# Altium integrated library Linear Technology Power Management System Supervisor, Monitor and Control.IntLib: 1611 symbols (part 7 of 100)
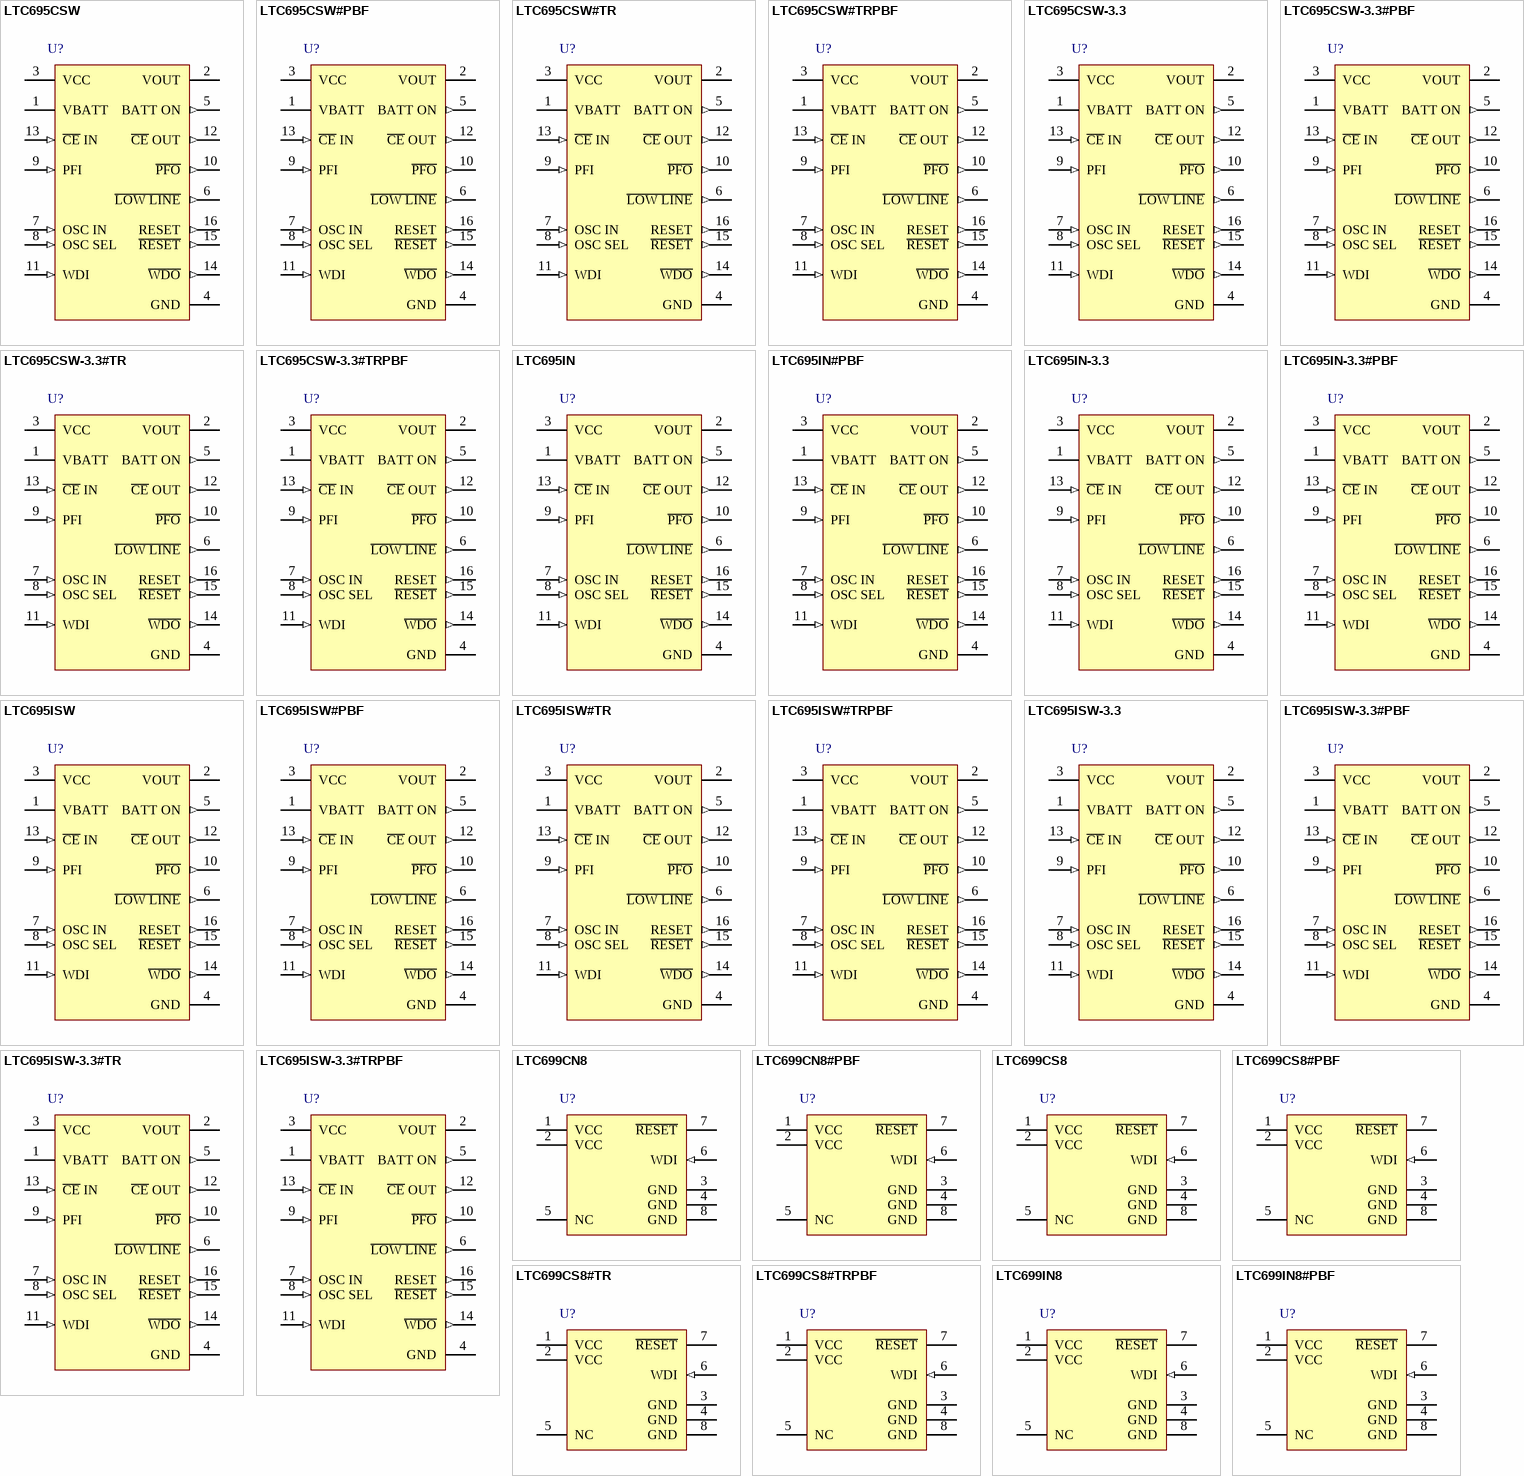
[diagram p51: symbols LTC695CSW to LTC699IN8#PBF]

## LTC695ISW#TR
designator U?
Microprocessor Supervisory Circuit, 16-pin SOIC (SW-16), -40 to 85 degC, Tape and Reel; Manufacturer: Linear Technology; PartNumber: LTC695ISW#TR; Number of Supplies(#): 1; DatasheetVersion: Rev. F; PackageVersion: Jun-10; PackageReference: SW-16; PackageDescription: 16-Pin Plastic Small Outline, Body 10.30 x 7.49 mm, Pitch 1.27 mm; Supplier 1: Digi-Key; Supplier Part Number 1: LTC695ISW#TR-ND; Packing: Tape and Reel; RoHS: FALSE; Mounting Technology: Surface Mount; ComponentLink1Description: Manufacturer URL; ComponentLink1URL: http://www.linear.com/; ComponentLink2Description: Datasheet; ComponentLink2URL: http://cds.linear.com/docs/en/datasheet/690ff.pdf; ComponentLink3Description: Package Specification; ComponentLink3URL: http://www.linear.com/docs/en/packaging/SO_16_05-08-1620.pdf
footprint LT-SW-16_N (SOIC, 16-Leads, Body 10.3x7.49mm, Pitch 1.27mm, IPC Medium Density)
footprint LT-SW-16_L (SOIC, 16-Leads, Body 10.3x7.49mm, Pitch 1.27mm, IPC High Density)
footprint LT-SW-16_M (SOIC, 16-Leads, Body 10.3x7.49mm, Pitch 1.27mm, IPC Low Density)
pins: 1 VBATT (power) "Back-Up Battery Input. When VCC falls below VBATT, auxiliary power connected to VBATT, is delivered to VOUTthrough PMOS switch, M2. If back-up battery or auxiliary power is not used, VBATT should be connected to GND.", 2 VOUT (power) "Voltage Output for Backed Up Memory. Bypass with a capacitor of 0.1uF or greater. During normal operation, VOUT obtains power from VCC through an NMOS power switch, M1, which can deliver up to 50mA and has a typical on (See Datasheet)", 3 VCC (power), 4 GND (power) "Ground Pin.", 5 BATT ON (out), 6 ~{LOW LINE} (out), 7 OSC IN (in), 8 OSC SEL (in), 9 PFI (in) "Power Failure Input. PFI is the noninverting input to the power-fail comparator, C3. The inverting input is internally connected to a 1.3V reference. The power failure output remains high when PFI is above 1.3V and goes low (See Datasheet)", 10 ~{PFO} (out) "Power Failure Output from C3. P\F\O\ remains high when PFI is above 1.3V and goes low when PFI is below 1.3V. When VCC is lower than VBATT, C3 is shut down and P\F\O\ is forced low.", 11 WDI (in) "Watchdog Input. WDI is a three-level input. Driving WDI either high or low for longer than the watchdog timeout period, forces both R\E\S\E\T\ and W\D\O\ low. Floating WDI disables the watchdog timer. The timer resets itself (See Datasheet)", 12 ~{CE} OUT (out) "Logic Output on the C\h\i\p\ \E\n\a\b\l\e\ Gating Circuit. When VCC is above the reset voltage threshold, C\E\ OUT is a buffered replica of C\E\ IN. When VCC is below the reset voltage threshold C\E\ OUT is forced high (see (See Datasheet)", 13 ~{CE} IN (in), 14 ~{WDO} (out) "Watchdog Logic Output. When the watchdog input remains either high or low for longer than the watchdog timeout period, W\D\O\ goes low. W\D\O\ is set high whenever there is a transition on the WDI pin, or L\O\W\ \L\I\N\E\ (See Datasheet)", 15 ~{RESET} (out), 16 RESET (out) "Active High Logic Output. It is the inverse of R\E\S\E\T\."

## LTC695ISW#TRPBF
designator U?
Microprocessor Supervisory Circuit, 16-pin SOIC (SW-16), -40 to 85 degC, Pb-Free, Tape and Reel; Manufacturer: Linear Technology; PartNumber: LTC695ISW#TRPBF; Number of Supplies(#): 1; DatasheetVersion: Rev. F; PackageVersion: Jun-10; PackageReference: SW-16; PackageDescription: 16-Pin Plastic Small Outline, Body 10.30 x 7.49 mm, Pitch 1.27 mm; Supplier 1: Digi-Key; Supplier Part Number 1: LTC695ISW#TRPBF-ND; Packing: Tape and Reel; RoHS: TRUE; Mounting Technology: Surface Mount; ComponentLink1Description: Manufacturer URL; ComponentLink1URL: http://www.linear.com/; ComponentLink2Description: Datasheet; ComponentLink2URL: http://cds.linear.com/docs/en/datasheet/690ff.pdf; ComponentLink3Description: Package Specification; ComponentLink3URL: http://www.linear.com/docs/en/packaging/SO_16_05-08-1620.pdf
footprint LT-SW-16_N (SOIC, 16-Leads, Body 10.3x7.49mm, Pitch 1.27mm, IPC Medium Density)
footprint LT-SW-16_L (SOIC, 16-Leads, Body 10.3x7.49mm, Pitch 1.27mm, IPC High Density)
footprint LT-SW-16_M (SOIC, 16-Leads, Body 10.3x7.49mm, Pitch 1.27mm, IPC Low Density)
pins: 1 VBATT (power) "Back-Up Battery Input. When VCC falls below VBATT, auxiliary power connected to VBATT, is delivered to VOUTthrough PMOS switch, M2. If back-up battery or auxiliary power is not used, VBATT should be connected to GND.", 2 VOUT (power) "Voltage Output for Backed Up Memory. Bypass with a capacitor of 0.1uF or greater. During normal operation, VOUT obtains power from VCC through an NMOS power switch, M1, which can deliver up to 50mA and has a typical on (See Datasheet)", 3 VCC (power), 4 GND (power) "Ground Pin.", 5 BATT ON (out), 6 ~{LOW LINE} (out), 7 OSC IN (in), 8 OSC SEL (in), 9 PFI (in) "Power Failure Input. PFI is the noninverting input to the power-fail comparator, C3. The inverting input is internally connected to a 1.3V reference. The power failure output remains high when PFI is above 1.3V and goes low (See Datasheet)", 10 ~{PFO} (out) "Power Failure Output from C3. P\F\O\ remains high when PFI is above 1.3V and goes low when PFI is below 1.3V. When VCC is lower than VBATT, C3 is shut down and P\F\O\ is forced low.", 11 WDI (in) "Watchdog Input. WDI is a three-level input. Driving WDI either high or low for longer than the watchdog timeout period, forces both R\E\S\E\T\ and W\D\O\ low. Floating WDI disables the watchdog timer. The timer resets itself (See Datasheet)", 12 ~{CE} OUT (out) "Logic Output on the C\h\i\p\ \E\n\a\b\l\e\ Gating Circuit. When VCC is above the reset voltage threshold, C\E\ OUT is a buffered replica of C\E\ IN. When VCC is below the reset voltage threshold C\E\ OUT is forced high (see (See Datasheet)", 13 ~{CE} IN (in), 14 ~{WDO} (out) "Watchdog Logic Output. When the watchdog input remains either high or low for longer than the watchdog timeout period, W\D\O\ goes low. W\D\O\ is set high whenever there is a transition on the WDI pin, or L\O\W\ \L\I\N\E\ (See Datasheet)", 15 ~{RESET} (out), 16 RESET (out) "Active High Logic Output. It is the inverse of R\E\S\E\T\."

## LTC695ISW-3.3
designator U?
Microprocessor Supervisory Circuit, 16-pin SOIC (SW-16), -40 to 85 degC; Manufacturer: Linear Technology; PartNumber: LTC695ISW-3.3; Number of Supplies(#): 1; DatasheetVersion: Rev. B; PackageVersion: Jun-10; PackageReference: SW-16; PackageDescription: 16-Pin Plastic Small Outline, Body 10.30 x 7.49 mm, Pitch 1.27 mm; Supplier 1: Digi-Key; Supplier Part Number 1: LTC695ISW-3.3-ND; Supplier 2: Newark; Supplier Part Number 2: 57M0516; RoHS: FALSE; Mounting Technology: Surface Mount; ComponentLink1Description: Manufacturer URL; ComponentLink1URL: http://www.linear.com/; ComponentLink2Description: Datasheet; ComponentLink2URL: http://cds.linear.com/docs/en/datasheet/69453fb.pdf; ComponentLink3Description: Package Specification; ComponentLink3URL: http://www.linear.com/docs/en/packaging/SO_16_05-08-1620.pdf
footprint LT-SW-16_N (SOIC, 16-Leads, Body 10.3x7.49mm, Pitch 1.27mm, IPC Medium Density)
footprint LT-SW-16_L (SOIC, 16-Leads, Body 10.3x7.49mm, Pitch 1.27mm, IPC High Density)
footprint LT-SW-16_M (SOIC, 16-Leads, Body 10.3x7.49mm, Pitch 1.27mm, IPC Low Density)
pins: 1 VBATT (power) "Back-Up Battery Input. When VCC falls below VBATT, auxiliary power connected to VBATT, is delivered to VOUTthrough PMOS switch, M2. If back-up battery or auxiliary power is not used, VBATT should be connected to GND.", 2 VOUT (power) "Voltage Output for Backed Up Memory. Bypass with a capacitor of 0.1uF or greater. During normal operation, VOUT obtains power from VCC through an NMOS power switch, M1, which can deliver up to 50mA and has a typical on (See Datasheet)", 3 VCC (power), 4 GND (power) "Ground Pin.", 5 BATT ON (out), 6 ~{LOW LINE} (out), 7 OSC IN (in), 8 OSC SEL (in), 9 PFI (in) "Power Failure Input. PFI is the noninverting input to the power-fail comparator, C3. The inverting input is internally connected to a 1.3V reference. The power failure output remains high when PFI is above 1.3V and goes low (See Datasheet)", 10 ~{PFO} (out) "Power Failure Output from C3. P\F\O\ remains high when PFI is above 1.3V and goes low when PFI is below 1.3V. When VCC is lower than VBATT, C3 is shut down and P\F\O\ is forced low.", 11 WDI (in) "Watchdog Input. WDI is a three-level input. Driving WDI either high or low for longer than the watchdog timeout period, forces both R\E\S\E\T\ and W\D\O\ low. Floating WDI disables the watchdog timer. The timer resets itself (See Datasheet)", 12 ~{CE} OUT (out) "Logic Output on the C\h\i\p\ \E\n\a\b\l\e\ Gating Circuit. When VCC is above the reset voltage threshold, C\E\ OUT is a buffered replica of C\E\ IN. When VCC is below the reset voltage threshold C\E\ OUT is forced high (see (See Datasheet)", 13 ~{CE} IN (in), 14 ~{WDO} (out) "Watchdog Logic Output. When the watchdog input remains either high or low for longer than the watchdog timeout period, W\D\O\ goes low. W\D\O\ is set high whenever there is a transition on the WDI pin, or L\O\W\ \L\I\N\E\ (See Datasheet)", 15 ~{RESET} (out), 16 RESET (out) "Active High Logic Output. It is the inverse of R\E\S\E\T\."

## LTC695ISW-3.3#PBF
designator U?
Microprocessor Supervisory Circuit, 16-pin SOIC (SW-16), -40 to 85 degC, Pb-Free; Manufacturer: Linear Technology; PartNumber: LTC695ISW-3.3#PBF; Number of Supplies(#): 1; DatasheetVersion: Rev. B; PackageVersion: Jun-10; PackageReference: SW-16; PackageDescription: 16-Pin Plastic Small Outline, Body 10.30 x 7.49 mm, Pitch 1.27 mm; Supplier 1: Digi-Key; Supplier Part Number 1: LTC695ISW-3.3#PBF-ND; Supplier 2: Newark; Supplier Part Number 2: 57M0517; RoHS: TRUE; Mounting Technology: Surface Mount; ComponentLink1Description: Manufacturer URL; ComponentLink1URL: http://www.linear.com/; ComponentLink2Description: Datasheet; ComponentLink2URL: http://cds.linear.com/docs/en/datasheet/69453fb.pdf; ComponentLink3Description: Package Specification; ComponentLink3URL: http://www.linear.com/docs/en/packaging/SO_16_05-08-1620.pdf
footprint LT-SW-16_N (SOIC, 16-Leads, Body 10.3x7.49mm, Pitch 1.27mm, IPC Medium Density)
footprint LT-SW-16_L (SOIC, 16-Leads, Body 10.3x7.49mm, Pitch 1.27mm, IPC High Density)
footprint LT-SW-16_M (SOIC, 16-Leads, Body 10.3x7.49mm, Pitch 1.27mm, IPC Low Density)
pins: 1 VBATT (power) "Back-Up Battery Input. When VCC falls below VBATT, auxiliary power connected to VBATT, is delivered to VOUTthrough PMOS switch, M2. If back-up battery or auxiliary power is not used, VBATT should be connected to GND.", 2 VOUT (power) "Voltage Output for Backed Up Memory. Bypass with a capacitor of 0.1uF or greater. During normal operation, VOUT obtains power from VCC through an NMOS power switch, M1, which can deliver up to 50mA and has a typical on (See Datasheet)", 3 VCC (power), 4 GND (power) "Ground Pin.", 5 BATT ON (out), 6 ~{LOW LINE} (out), 7 OSC IN (in), 8 OSC SEL (in), 9 PFI (in) "Power Failure Input. PFI is the noninverting input to the power-fail comparator, C3. The inverting input is internally connected to a 1.3V reference. The power failure output remains high when PFI is above 1.3V and goes low (See Datasheet)", 10 ~{PFO} (out) "Power Failure Output from C3. P\F\O\ remains high when PFI is above 1.3V and goes low when PFI is below 1.3V. When VCC is lower than VBATT, C3 is shut down and P\F\O\ is forced low.", 11 WDI (in) "Watchdog Input. WDI is a three-level input. Driving WDI either high or low for longer than the watchdog timeout period, forces both R\E\S\E\T\ and W\D\O\ low. Floating WDI disables the watchdog timer. The timer resets itself (See Datasheet)", 12 ~{CE} OUT (out) "Logic Output on the C\h\i\p\ \E\n\a\b\l\e\ Gating Circuit. When VCC is above the reset voltage threshold, C\E\ OUT is a buffered replica of C\E\ IN. When VCC is below the reset voltage threshold C\E\ OUT is forced high (see (See Datasheet)", 13 ~{CE} IN (in), 14 ~{WDO} (out) "Watchdog Logic Output. When the watchdog input remains either high or low for longer than the watchdog timeout period, W\D\O\ goes low. W\D\O\ is set high whenever there is a transition on the WDI pin, or L\O\W\ \L\I\N\E\ (See Datasheet)", 15 ~{RESET} (out), 16 RESET (out) "Active High Logic Output. It is the inverse of R\E\S\E\T\."

## LTC695ISW-3.3#TR
designator U?
Microprocessor Supervisory Circuit, 16-pin SOIC (SW-16), -40 to 85 degC, Tape and Reel; Manufacturer: Linear Technology; PartNumber: LTC695ISW-3.3#TR; Number of Supplies(#): 1; DatasheetVersion: Rev. B; PackageVersion: Jun-10; PackageReference: SW-16; PackageDescription: 16-Pin Plastic Small Outline, Body 10.30 x 7.49 mm, Pitch 1.27 mm; Supplier 1: Digi-Key; Supplier Part Number 1: LTC695ISW-3.3#TR-ND; Packing: Tape and Reel; RoHS: FALSE; Mounting Technology: Surface Mount; ComponentLink1Description: Manufacturer URL; ComponentLink1URL: http://www.linear.com/; ComponentLink2Description: Datasheet; ComponentLink2URL: http://cds.linear.com/docs/en/datasheet/69453fb.pdf; ComponentLink3Description: Package Specification; ComponentLink3URL: http://www.linear.com/docs/en/packaging/SO_16_05-08-1620.pdf
footprint LT-SW-16_N (SOIC, 16-Leads, Body 10.3x7.49mm, Pitch 1.27mm, IPC Medium Density)
footprint LT-SW-16_L (SOIC, 16-Leads, Body 10.3x7.49mm, Pitch 1.27mm, IPC High Density)
footprint LT-SW-16_M (SOIC, 16-Leads, Body 10.3x7.49mm, Pitch 1.27mm, IPC Low Density)
pins: 1 VBATT (power) "Back-Up Battery Input. When VCC falls below VBATT, auxiliary power connected to VBATT, is delivered to VOUTthrough PMOS switch, M2. If back-up battery or auxiliary power is not used, VBATT should be connected to GND.", 2 VOUT (power) "Voltage Output for Backed Up Memory. Bypass with a capacitor of 0.1uF or greater. During normal operation, VOUT obtains power from VCC through an NMOS power switch, M1, which can deliver up to 50mA and has a typical on (See Datasheet)", 3 VCC (power), 4 GND (power) "Ground Pin.", 5 BATT ON (out), 6 ~{LOW LINE} (out), 7 OSC IN (in), 8 OSC SEL (in), 9 PFI (in) "Power Failure Input. PFI is the noninverting input to the power-fail comparator, C3. The inverting input is internally connected to a 1.3V reference. The power failure output remains high when PFI is above 1.3V and goes low (See Datasheet)", 10 ~{PFO} (out) "Power Failure Output from C3. P\F\O\ remains high when PFI is above 1.3V and goes low when PFI is below 1.3V. When VCC is lower than VBATT, C3 is shut down and P\F\O\ is forced low.", 11 WDI (in) "Watchdog Input. WDI is a three-level input. Driving WDI either high or low for longer than the watchdog timeout period, forces both R\E\S\E\T\ and W\D\O\ low. Floating WDI disables the watchdog timer. The timer resets itself (See Datasheet)", 12 ~{CE} OUT (out) "Logic Output on the C\h\i\p\ \E\n\a\b\l\e\ Gating Circuit. When VCC is above the reset voltage threshold, C\E\ OUT is a buffered replica of C\E\ IN. When VCC is below the reset voltage threshold C\E\ OUT is forced high (see (See Datasheet)", 13 ~{CE} IN (in), 14 ~{WDO} (out) "Watchdog Logic Output. When the watchdog input remains either high or low for longer than the watchdog timeout period, W\D\O\ goes low. W\D\O\ is set high whenever there is a transition on the WDI pin, or L\O\W\ \L\I\N\E\ (See Datasheet)", 15 ~{RESET} (out), 16 RESET (out) "Active High Logic Output. It is the inverse of R\E\S\E\T\."

## LTC695ISW-3.3#TRPBF
designator U?
Microprocessor Supervisory Circuit, 16-pin SOIC (SW-16), -40 to 85 degC, Pb-Free, Tape and Reel; Manufacturer: Linear Technology; PartNumber: LTC695ISW-3.3#TRPBF; Number of Supplies(#): 1; DatasheetVersion: Rev. B; PackageVersion: Jun-10; PackageReference: SW-16; PackageDescription: 16-Pin Plastic Small Outline, Body 10.30 x 7.49 mm, Pitch 1.27 mm; Supplier 1: Digi-Key; Supplier Part Number 1: LTC695ISW-3.3#TRPBF-ND; Packing: Tape and Reel; RoHS: TRUE; Mounting Technology: Surface Mount; ComponentLink1Description: Manufacturer URL; ComponentLink1URL: http://www.linear.com/; ComponentLink2Description: Datasheet; ComponentLink2URL: http://cds.linear.com/docs/en/datasheet/69453fb.pdf; ComponentLink3Description: Package Specification; ComponentLink3URL: http://www.linear.com/docs/en/packaging/SO_16_05-08-1620.pdf
footprint LT-SW-16_N (SOIC, 16-Leads, Body 10.3x7.49mm, Pitch 1.27mm, IPC Medium Density)
footprint LT-SW-16_L (SOIC, 16-Leads, Body 10.3x7.49mm, Pitch 1.27mm, IPC High Density)
footprint LT-SW-16_M (SOIC, 16-Leads, Body 10.3x7.49mm, Pitch 1.27mm, IPC Low Density)
pins: 1 VBATT (power) "Back-Up Battery Input. When VCC falls below VBATT, auxiliary power connected to VBATT, is delivered to VOUTthrough PMOS switch, M2. If back-up battery or auxiliary power is not used, VBATT should be connected to GND.", 2 VOUT (power) "Voltage Output for Backed Up Memory. Bypass with a capacitor of 0.1uF or greater. During normal operation, VOUT obtains power from VCC through an NMOS power switch, M1, which can deliver up to 50mA and has a typical on (See Datasheet)", 3 VCC (power), 4 GND (power) "Ground Pin.", 5 BATT ON (out), 6 ~{LOW LINE} (out), 7 OSC IN (in), 8 OSC SEL (in), 9 PFI (in) "Power Failure Input. PFI is the noninverting input to the power-fail comparator, C3. The inverting input is internally connected to a 1.3V reference. The power failure output remains high when PFI is above 1.3V and goes low (See Datasheet)", 10 ~{PFO} (out) "Power Failure Output from C3. P\F\O\ remains high when PFI is above 1.3V and goes low when PFI is below 1.3V. When VCC is lower than VBATT, C3 is shut down and P\F\O\ is forced low.", 11 WDI (in) "Watchdog Input. WDI is a three-level input. Driving WDI either high or low for longer than the watchdog timeout period, forces both R\E\S\E\T\ and W\D\O\ low. Floating WDI disables the watchdog timer. The timer resets itself (See Datasheet)", 12 ~{CE} OUT (out) "Logic Output on the C\h\i\p\ \E\n\a\b\l\e\ Gating Circuit. When VCC is above the reset voltage threshold, C\E\ OUT is a buffered replica of C\E\ IN. When VCC is below the reset voltage threshold C\E\ OUT is forced high (see (See Datasheet)", 13 ~{CE} IN (in), 14 ~{WDO} (out) "Watchdog Logic Output. When the watchdog input remains either high or low for longer than the watchdog timeout period, W\D\O\ goes low. W\D\O\ is set high whenever there is a transition on the WDI pin, or L\O\W\ \L\I\N\E\ (See Datasheet)", 15 ~{RESET} (out), 16 RESET (out) "Active High Logic Output. It is the inverse of R\E\S\E\T\."

## LTC699CN8
designator U?
Microprocessor Supervisory Circuit, 8-pin DIP (N8-8), 0 to 70 degC; Manufacturer: Linear Technology; PartNumber: LTC699CN8; Number of Supplies(#): 1; DatasheetVersion: Rev. 0; PackageVersion: Rev. I, 07/2011; PackageReference: N8-8; PackageDescription: 8-Pin PDIP, Body 10.16 x 6.48 mm, Pitch 2.54 mm; Supplier 1: Digi-Key; Supplier Part Number 1: LTC699CN8-ND; Supplier 2: Newark; Supplier Part Number 2: 57M0523; RoHS: FALSE; Mounting Technology: Through Hole; ComponentLink1Description: Manufacturer URL; ComponentLink1URL: http://www.linear.com/; ComponentLink2Description: Datasheet; ComponentLink2URL: http://cds.linear.com/docs/en/datasheet/lt0699.pdf; ComponentLink3Description: Package Specification; ComponentLink3URL: http://www.linear.com/docs/en/packaging/05081510_I_N8.pdf
footprint LT-N8-8 (DIP, 8-Leads, Body 10.15x6.85mm, Pitch 2.54mm)
pins: 1 VCC (power) "5V supply input. The VCC pin should be bypassed with a 0.1uF capacitor.", 2 VCC (power) "5V supply input. The VCC pin should be bypassed with a 0.1uF capacitor.", 3 GND (power) "Ground pin.", 4 GND (power) "Ground pin.", 5 NC, 6 WDI (in) "Watchdog Input, WDI, is a three level input. Driving WDI either high or low for longer than the watchdog timeout period forces R\E\S\E\T\ low. Floating WDI disables the Watchdog Timer. The timer resets itself with each (See Datasheet)", 7 ~{RESET} (oc) "Open drain output for uP reset control. When VCC falls below the reset voltage threshold (4.65V typically), R\E\S\E\T\ goes active low. After VCC returns to 5V, the reset pulse generator forces R\E\S\E\T\ to remain active (See Datasheet)", 8 GND (power) "Ground pin."

## LTC699CN8#PBF
designator U?
Microprocessor Supervisory Circuit, 8-pin DIP (N8-8), 0 to 70 degC, Pb-Free; Manufacturer: Linear Technology; PartNumber: LTC699CN8#PBF; Number of Supplies(#): 1; DatasheetVersion: Rev. 0; PackageVersion: Rev. I, 07/2011; PackageReference: N8-8; PackageDescription: 8-Pin PDIP, Body 10.16 x 6.48 mm, Pitch 2.54 mm; Supplier 1: Digi-Key; Supplier Part Number 1: LTC699CN8#PBF-ND; Supplier 2: Newark; Supplier Part Number 2: 57M0524; RoHS: TRUE; Mounting Technology: Through Hole; ComponentLink1Description: Manufacturer URL; ComponentLink1URL: http://www.linear.com/; ComponentLink2Description: Datasheet; ComponentLink2URL: http://cds.linear.com/docs/en/datasheet/lt0699.pdf; ComponentLink3Description: Package Specification; ComponentLink3URL: http://www.linear.com/docs/en/packaging/05081510_I_N8.pdf
footprint LT-N8-8 (DIP, 8-Leads, Body 10.15x6.85mm, Pitch 2.54mm)
pins: 1 VCC (power) "5V supply input. The VCC pin should be bypassed with a 0.1uF capacitor.", 2 VCC (power) "5V supply input. The VCC pin should be bypassed with a 0.1uF capacitor.", 3 GND (power) "Ground pin.", 4 GND (power) "Ground pin.", 5 NC, 6 WDI (in) "Watchdog Input, WDI, is a three level input. Driving WDI either high or low for longer than the watchdog timeout period forces R\E\S\E\T\ low. Floating WDI disables the Watchdog Timer. The timer resets itself with each (See Datasheet)", 7 ~{RESET} (oc) "Open drain output for uP reset control. When VCC falls below the reset voltage threshold (4.65V typically), R\E\S\E\T\ goes active low. After VCC returns to 5V, the reset pulse generator forces R\E\S\E\T\ to remain active (See Datasheet)", 8 GND (power) "Ground pin."

## LTC699CS8
designator U?
Microprocessor Supervisory Circuit, 8-pin SOIC (S8-8), 0 to 70 degC; Manufacturer: Linear Technology; PartNumber: LTC699CS8; Number of Supplies(#): 1; DatasheetVersion: Rev. 0; PackageVersion: Rev. G, 03/2012; PackageReference: S8-8; PackageDescription: 8-Pin Plastic Small Outline (Narrow .150 Inch), Body 4.9 x 3.9 mm, Pitch 1.27 mm; Supplier 1: Digi-Key; Supplier Part Number 1: LTC699CS8-ND; RoHS: FALSE; Mounting Technology: Surface Mount; ComponentLink1Description: Manufacturer URL; ComponentLink1URL: http://www.linear.com/; ComponentLink2Description: Datasheet; ComponentLink2URL: http://cds.linear.com/docs/en/datasheet/lt0699.pdf; ComponentLink3Description: Package Specification; ComponentLink3URL: http://cds.linear.com/docs/en/packaging/05081610_G_SO8.pdf
footprint LT-S8-8_N (SOIC, 8-Leads, Body 5x4mm, Pitch 1.27mm, IPC Medium Density)
footprint LT-S8-8_L (SOIC, 8-Leads, Body 5x4mm, Pitch 1.27mm, IPC High Density)
footprint LT-S8-8_M (SOIC, 8-Leads, Body 5x4mm, Pitch 1.27mm, IPC Low Density)
pins: 1 VCC (power) "5V supply input. The VCC pin should be bypassed with a 0.1uF capacitor.", 2 VCC (power) "5V supply input. The VCC pin should be bypassed with a 0.1uF capacitor.", 3 GND (power) "Ground pin.", 4 GND (power) "Ground pin.", 5 NC, 6 WDI (in) "Watchdog Input, WDI, is a three level input. Driving WDI either high or low for longer than the watchdog timeout period forces R\E\S\E\T\ low. Floating WDI disables the Watchdog Timer. The timer resets itself with each (See Datasheet)", 7 ~{RESET} (oc) "Open drain output for uP reset control. When VCC falls below the reset voltage threshold (4.65V typically), R\E\S\E\T\ goes active low. After VCC returns to 5V, the reset pulse generator forces R\E\S\E\T\ to remain active (See Datasheet)", 8 GND (power) "Ground pin."

## LTC699CS8#PBF
designator U?
Microprocessor Supervisory Circuit, 8-pin SOIC (S8-8), 0 to 70 degC, Pb-Free; Manufacturer: Linear Technology; PartNumber: LTC699CS8#PBF; Number of Supplies(#): 1; DatasheetVersion: Rev. 0; PackageVersion: Rev. G, 03/2012; PackageReference: S8-8; PackageDescription: 8-Pin Plastic Small Outline (Narrow .150 Inch), Body 4.9 x 3.9 mm, Pitch 1.27 mm; Supplier 1: Digi-Key; Supplier Part Number 1: LTC699CS8#PBF-ND; Supplier 2: Newark; Supplier Part Number 2: 57M0526; RoHS: TRUE; Mounting Technology: Surface Mount; ComponentLink1Description: Manufacturer URL; ComponentLink1URL: http://www.linear.com/; ComponentLink2Description: Datasheet; ComponentLink2URL: http://cds.linear.com/docs/en/datasheet/lt0699.pdf; ComponentLink3Description: Package Specification; ComponentLink3URL: http://cds.linear.com/docs/en/packaging/05081610_G_SO8.pdf
footprint LT-S8-8_N (SOIC, 8-Leads, Body 5x4mm, Pitch 1.27mm, IPC Medium Density)
footprint LT-S8-8_L (SOIC, 8-Leads, Body 5x4mm, Pitch 1.27mm, IPC High Density)
footprint LT-S8-8_M (SOIC, 8-Leads, Body 5x4mm, Pitch 1.27mm, IPC Low Density)
pins: 1 VCC (power) "5V supply input. The VCC pin should be bypassed with a 0.1uF capacitor.", 2 VCC (power) "5V supply input. The VCC pin should be bypassed with a 0.1uF capacitor.", 3 GND (power) "Ground pin.", 4 GND (power) "Ground pin.", 5 NC, 6 WDI (in) "Watchdog Input, WDI, is a three level input. Driving WDI either high or low for longer than the watchdog timeout period forces R\E\S\E\T\ low. Floating WDI disables the Watchdog Timer. The timer resets itself with each (See Datasheet)", 7 ~{RESET} (oc) "Open drain output for uP reset control. When VCC falls below the reset voltage threshold (4.65V typically), R\E\S\E\T\ goes active low. After VCC returns to 5V, the reset pulse generator forces R\E\S\E\T\ to remain active (See Datasheet)", 8 GND (power) "Ground pin."

## LTC699CS8#TR
designator U?
Microprocessor Supervisory Circuit, 8-pin SOIC (S8-8), 0 to 70 degC, Tape and Reel; Manufacturer: Linear Technology; PartNumber: LTC699CS8#TR; Number of Supplies(#): 1; DatasheetVersion: Rev. 0; PackageVersion: Rev. G, 03/2012; PackageReference: S8-8; PackageDescription: 8-Pin Plastic Small Outline (Narrow .150 Inch), Body 4.9 x 3.9 mm, Pitch 1.27 mm; Supplier 1: Digi-Key; Supplier Part Number 1: LTC699CS8#TR-ND; Packing: Tape and Reel; RoHS: FALSE; Mounting Technology: Surface Mount; ComponentLink1Description: Manufacturer URL; ComponentLink1URL: http://www.linear.com/; ComponentLink2Description: Datasheet; ComponentLink2URL: http://cds.linear.com/docs/en/datasheet/lt0699.pdf; ComponentLink3Description: Package Specification; ComponentLink3URL: http://cds.linear.com/docs/en/packaging/05081610_G_SO8.pdf
footprint LT-S8-8_N (SOIC, 8-Leads, Body 5x4mm, Pitch 1.27mm, IPC Medium Density)
footprint LT-S8-8_L (SOIC, 8-Leads, Body 5x4mm, Pitch 1.27mm, IPC High Density)
footprint LT-S8-8_M (SOIC, 8-Leads, Body 5x4mm, Pitch 1.27mm, IPC Low Density)
pins: 1 VCC (power) "5V supply input. The VCC pin should be bypassed with a 0.1uF capacitor.", 2 VCC (power) "5V supply input. The VCC pin should be bypassed with a 0.1uF capacitor.", 3 GND (power) "Ground pin.", 4 GND (power) "Ground pin.", 5 NC, 6 WDI (in) "Watchdog Input, WDI, is a three level input. Driving WDI either high or low for longer than the watchdog timeout period forces R\E\S\E\T\ low. Floating WDI disables the Watchdog Timer. The timer resets itself with each (See Datasheet)", 7 ~{RESET} (oc) "Open drain output for uP reset control. When VCC falls below the reset voltage threshold (4.65V typically), R\E\S\E\T\ goes active low. After VCC returns to 5V, the reset pulse generator forces R\E\S\E\T\ to remain active (See Datasheet)", 8 GND (power) "Ground pin."

## LTC699CS8#TRPBF
designator U?
Microprocessor Supervisory Circuit, 8-pin SOIC (S8-8), 0 to 70 degC, Pb-Free, Tape and Reel; Manufacturer: Linear Technology; PartNumber: LTC699CS8#TRPBF; Number of Supplies(#): 1; DatasheetVersion: Rev. 0; PackageVersion: Rev. G, 03/2012; PackageReference: S8-8; PackageDescription: 8-Pin Plastic Small Outline (Narrow .150 Inch), Body 4.9 x 3.9 mm, Pitch 1.27 mm; Supplier 1: Digi-Key; Supplier Part Number 1: LTC699CS8#TRPBF-ND; Packing: Tape and Reel; RoHS: TRUE; Mounting Technology: Surface Mount; ComponentLink1Description: Manufacturer URL; ComponentLink1URL: http://www.linear.com/; ComponentLink2Description: Datasheet; ComponentLink2URL: http://cds.linear.com/docs/en/datasheet/lt0699.pdf; ComponentLink3Description: Package Specification; ComponentLink3URL: http://cds.linear.com/docs/en/packaging/05081610_G_SO8.pdf
footprint LT-S8-8_N (SOIC, 8-Leads, Body 5x4mm, Pitch 1.27mm, IPC Medium Density)
footprint LT-S8-8_L (SOIC, 8-Leads, Body 5x4mm, Pitch 1.27mm, IPC High Density)
footprint LT-S8-8_M (SOIC, 8-Leads, Body 5x4mm, Pitch 1.27mm, IPC Low Density)
pins: 1 VCC (power) "5V supply input. The VCC pin should be bypassed with a 0.1uF capacitor.", 2 VCC (power) "5V supply input. The VCC pin should be bypassed with a 0.1uF capacitor.", 3 GND (power) "Ground pin.", 4 GND (power) "Ground pin.", 5 NC, 6 WDI (in) "Watchdog Input, WDI, is a three level input. Driving WDI either high or low for longer than the watchdog timeout period forces R\E\S\E\T\ low. Floating WDI disables the Watchdog Timer. The timer resets itself with each (See Datasheet)", 7 ~{RESET} (oc) "Open drain output for uP reset control. When VCC falls below the reset voltage threshold (4.65V typically), R\E\S\E\T\ goes active low. After VCC returns to 5V, the reset pulse generator forces R\E\S\E\T\ to remain active (See Datasheet)", 8 GND (power) "Ground pin."

## LTC699IN8
designator U?
Microprocessor Supervisory Circuit, 8-pin DIP (N8-8), -40 to 85 degC; Manufacturer: Linear Technology; PartNumber: LTC699IN8; Number of Supplies(#): 1; DatasheetVersion: Rev. 0; PackageVersion: Rev. I, 07/2011; PackageReference: N8-8; PackageDescription: 8-Pin PDIP, Body 10.16 x 6.48 mm, Pitch 2.54 mm; Supplier 1: Digi-Key; Supplier Part Number 1: LTC699IN8-ND; RoHS: FALSE; Mounting Technology: Through Hole; ComponentLink1Description: Manufacturer URL; ComponentLink1URL: http://www.linear.com/; ComponentLink2Description: Datasheet; ComponentLink2URL: http://cds.linear.com/docs/en/datasheet/lt0699.pdf; ComponentLink3Description: Package Specification; ComponentLink3URL: http://www.linear.com/docs/en/packaging/05081510_I_N8.pdf
footprint LT-N8-8 (DIP, 8-Leads, Body 10.15x6.85mm, Pitch 2.54mm)
pins: 1 VCC (power) "5V supply input. The VCC pin should be bypassed with a 0.1uF capacitor.", 2 VCC (power) "5V supply input. The VCC pin should be bypassed with a 0.1uF capacitor.", 3 GND (power) "Ground pin.", 4 GND (power) "Ground pin.", 5 NC, 6 WDI (in) "Watchdog Input, WDI, is a three level input. Driving WDI either high or low for longer than the watchdog timeout period forces R\E\S\E\T\ low. Floating WDI disables the Watchdog Timer. The timer resets itself with each (See Datasheet)", 7 ~{RESET} (oc) "Open drain output for uP reset control. When VCC falls below the reset voltage threshold (4.65V typically), R\E\S\E\T\ goes active low. After VCC returns to 5V, the reset pulse generator forces R\E\S\E\T\ to remain active (See Datasheet)", 8 GND (power) "Ground pin."

## LTC699IN8#PBF
designator U?
Microprocessor Supervisory Circuit, 8-pin DIP (N8-8), -40 to 85 degC, Pb-Free; Manufacturer: Linear Technology; PartNumber: LTC699IN8#PBF; Number of Supplies(#): 1; DatasheetVersion: Rev. 0; PackageVersion: Rev. I, 07/2011; PackageReference: N8-8; PackageDescription: 8-Pin PDIP, Body 10.16 x 6.48 mm, Pitch 2.54 mm; Supplier 1: Digi-Key; Supplier Part Number 1: LTC699IN8#PBF-ND; RoHS: TRUE; Mounting Technology: Through Hole; ComponentLink1Description: Manufacturer URL; ComponentLink1URL: http://www.linear.com/; ComponentLink2Description: Datasheet; ComponentLink2URL: http://cds.linear.com/docs/en/datasheet/lt0699.pdf; ComponentLink3Description: Package Specification; ComponentLink3URL: http://www.linear.com/docs/en/packaging/05081510_I_N8.pdf
footprint LT-N8-8 (DIP, 8-Leads, Body 10.15x6.85mm, Pitch 2.54mm)
pins: 1 VCC (power) "5V supply input. The VCC pin should be bypassed with a 0.1uF capacitor.", 2 VCC (power) "5V supply input. The VCC pin should be bypassed with a 0.1uF capacitor.", 3 GND (power) "Ground pin.", 4 GND (power) "Ground pin.", 5 NC, 6 WDI (in) "Watchdog Input, WDI, is a three level input. Driving WDI either high or low for longer than the watchdog timeout period forces R\E\S\E\T\ low. Floating WDI disables the Watchdog Timer. The timer resets itself with each (See Datasheet)", 7 ~{RESET} (oc) "Open drain output for uP reset control. When VCC falls below the reset voltage threshold (4.65V typically), R\E\S\E\T\ goes active low. After VCC returns to 5V, the reset pulse generator forces R\E\S\E\T\ to remain active (See Datasheet)", 8 GND (power) "Ground pin."

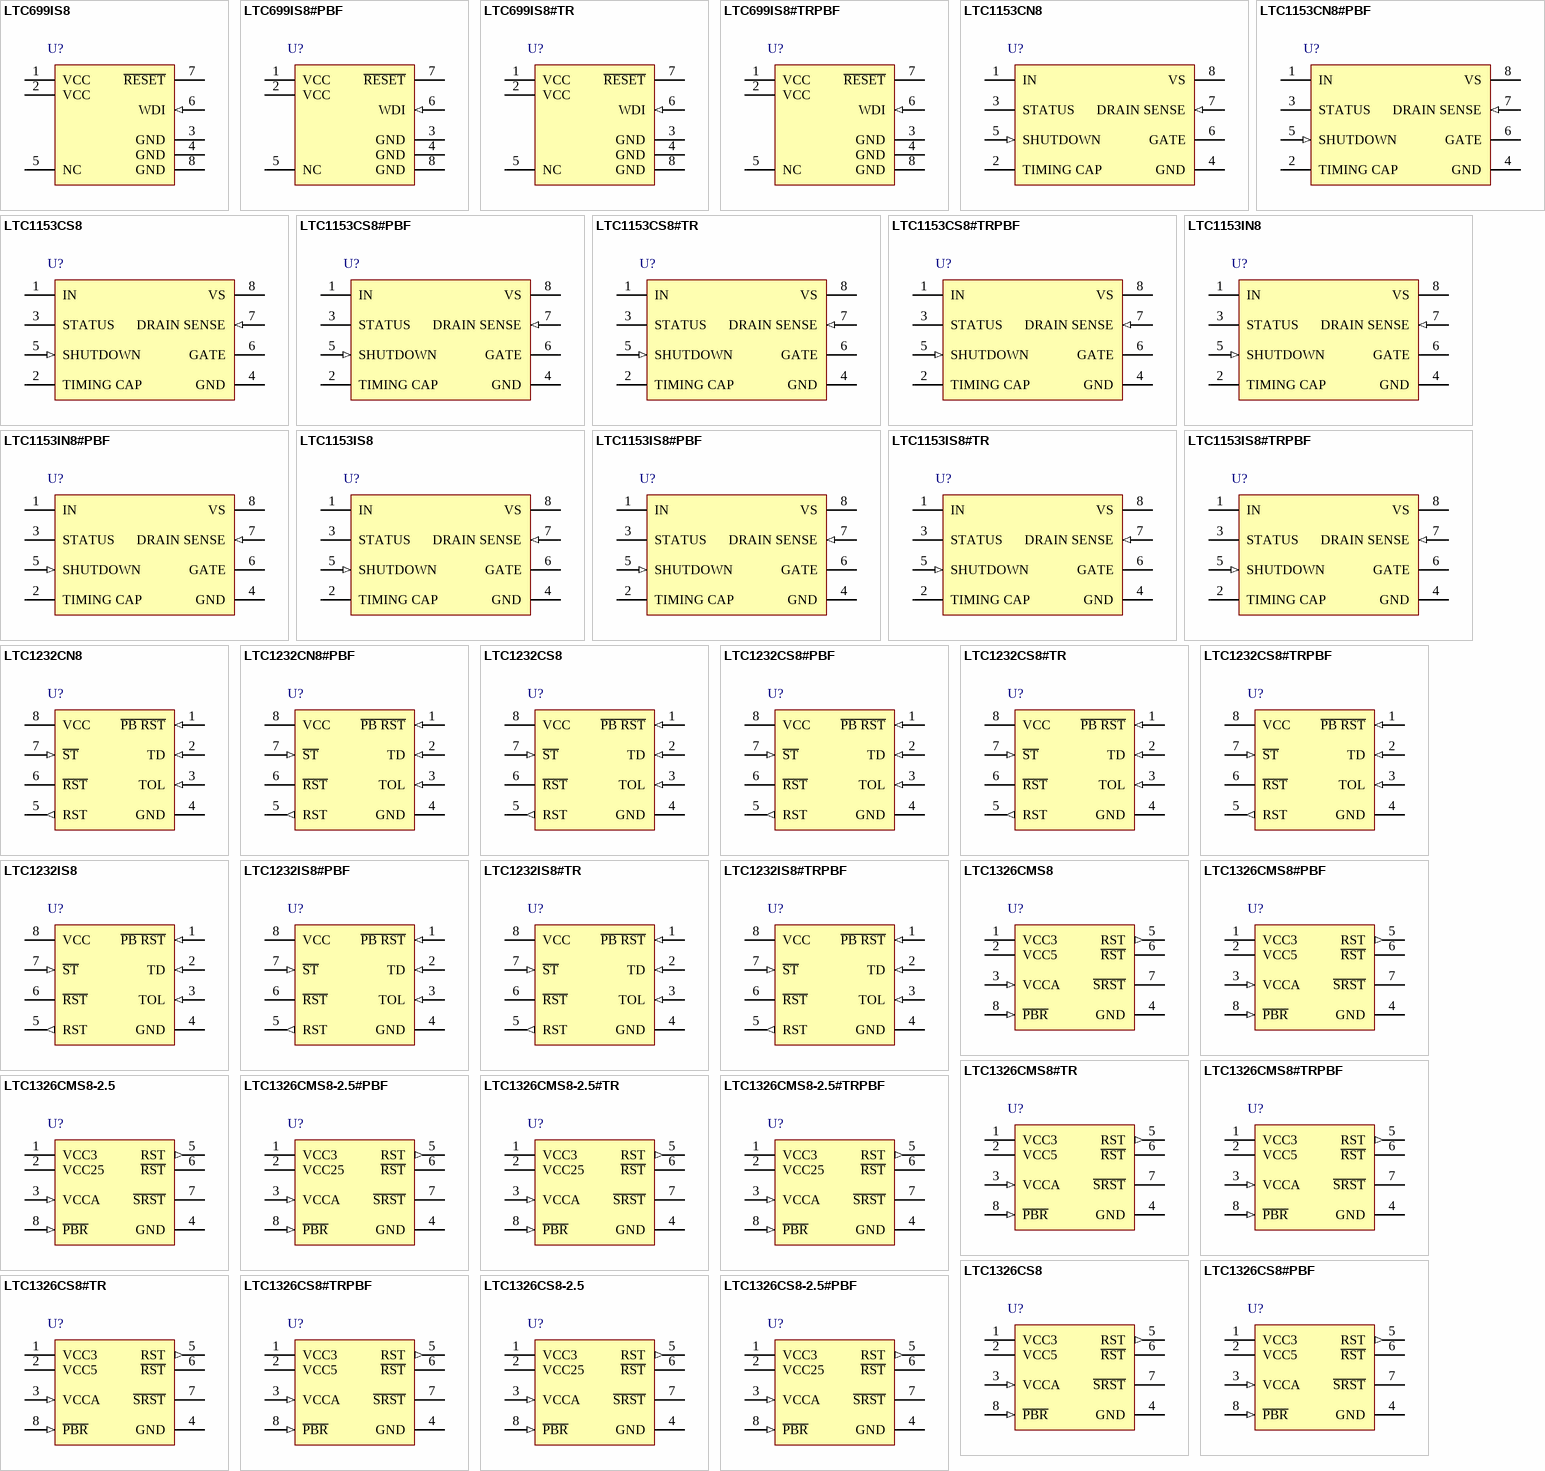
[diagram p4: symbols LTC699IS8 to LTC1326CS8-2.5#PBF]

## LTC699IS8
designator U?
Microprocessor Supervisory Circuit, 8-pin SOIC (S8-8), -40 to 85 degC; Manufacturer: Linear Technology; PartNumber: LTC699IS8; Number of Supplies(#): 1; DatasheetVersion: Rev. 0; PackageVersion: Rev. G, 03/2012; PackageReference: S8-8; PackageDescription: 8-Pin Plastic Small Outline (Narrow .150 Inch), Body 4.9 x 3.9 mm, Pitch 1.27 mm; Supplier 1: Digi-Key; Supplier Part Number 1: LTC699IS8-ND; Supplier 2: Newark; Supplier Part Number 2: 57M0531; RoHS: FALSE; Mounting Technology: Surface Mount; ComponentLink1Description: Manufacturer URL; ComponentLink1URL: http://www.linear.com/; ComponentLink2Description: Datasheet; ComponentLink2URL: http://cds.linear.com/docs/en/datasheet/lt0699.pdf; ComponentLink3Description: Package Specification; ComponentLink3URL: http://cds.linear.com/docs/en/packaging/05081610_G_SO8.pdf
footprint LT-S8-8_N (SOIC, 8-Leads, Body 5x4mm, Pitch 1.27mm, IPC Medium Density)
footprint LT-S8-8_L (SOIC, 8-Leads, Body 5x4mm, Pitch 1.27mm, IPC High Density)
footprint LT-S8-8_M (SOIC, 8-Leads, Body 5x4mm, Pitch 1.27mm, IPC Low Density)
pins: 1 VCC (power) "5V supply input. The VCC pin should be bypassed with a 0.1uF capacitor.", 2 VCC (power) "5V supply input. The VCC pin should be bypassed with a 0.1uF capacitor.", 3 GND (power) "Ground pin.", 4 GND (power) "Ground pin.", 5 NC, 6 WDI (in) "Watchdog Input, WDI, is a three level input. Driving WDI either high or low for longer than the watchdog timeout period forces R\E\S\E\T\ low. Floating WDI disables the Watchdog Timer. The timer resets itself with each (See Datasheet)", 7 ~{RESET} (oc) "Open drain output for uP reset control. When VCC falls below the reset voltage threshold (4.65V typically), R\E\S\E\T\ goes active low. After VCC returns to 5V, the reset pulse generator forces R\E\S\E\T\ to remain active (See Datasheet)", 8 GND (power) "Ground pin."

## LTC699IS8#PBF
designator U?
Microprocessor Supervisory Circuit, 8-pin SOIC (S8-8), -40 to 85 degC, Pb-Free; Manufacturer: Linear Technology; PartNumber: LTC699IS8#PBF; Number of Supplies(#): 1; DatasheetVersion: Rev. 0; PackageVersion: Rev. G, 03/2012; PackageReference: S8-8; PackageDescription: 8-Pin Plastic Small Outline (Narrow .150 Inch), Body 4.9 x 3.9 mm, Pitch 1.27 mm; Supplier 1: Digi-Key; Supplier Part Number 1: LTC699IS8#PBF-ND; Supplier 2: Farnell; Supplier Part Number 2: 2295467; Supplier 3: Newark; Supplier Part Number 3: 57M0532; RoHS: TRUE; Mounting Technology: Surface Mount; ComponentLink1Description: Manufacturer URL; ComponentLink1URL: http://www.linear.com/; ComponentLink2Description: Datasheet; ComponentLink2URL: http://cds.linear.com/docs/en/datasheet/lt0699.pdf; ComponentLink3Description: Package Specification; ComponentLink3URL: http://cds.linear.com/docs/en/packaging/05081610_G_SO8.pdf
footprint LT-S8-8_N (SOIC, 8-Leads, Body 5x4mm, Pitch 1.27mm, IPC Medium Density)
footprint LT-S8-8_L (SOIC, 8-Leads, Body 5x4mm, Pitch 1.27mm, IPC High Density)
footprint LT-S8-8_M (SOIC, 8-Leads, Body 5x4mm, Pitch 1.27mm, IPC Low Density)
pins: 1 VCC (power) "5V supply input. The VCC pin should be bypassed with a 0.1uF capacitor.", 2 VCC (power) "5V supply input. The VCC pin should be bypassed with a 0.1uF capacitor.", 3 GND (power) "Ground pin.", 4 GND (power) "Ground pin.", 5 NC, 6 WDI (in) "Watchdog Input, WDI, is a three level input. Driving WDI either high or low for longer than the watchdog timeout period forces R\E\S\E\T\ low. Floating WDI disables the Watchdog Timer. The timer resets itself with each (See Datasheet)", 7 ~{RESET} (oc) "Open drain output for uP reset control. When VCC falls below the reset voltage threshold (4.65V typically), R\E\S\E\T\ goes active low. After VCC returns to 5V, the reset pulse generator forces R\E\S\E\T\ to remain active (See Datasheet)", 8 GND (power) "Ground pin."

## LTC699IS8#TR
designator U?
Microprocessor Supervisory Circuit, 8-pin SOIC (S8-8), -40 to 85 degC, Tape and Reel; Manufacturer: Linear Technology; PartNumber: LTC699IS8#TR; Number of Supplies(#): 1; DatasheetVersion: Rev. 0; PackageVersion: Rev. G, 03/2012; PackageReference: S8-8; PackageDescription: 8-Pin Plastic Small Outline (Narrow .150 Inch), Body 4.9 x 3.9 mm, Pitch 1.27 mm; Supplier 1: Digi-Key; Supplier Part Number 1: LTC699IS8#TR-ND; Packing: Tape and Reel; RoHS: FALSE; Mounting Technology: Surface Mount; ComponentLink1Description: Manufacturer URL; ComponentLink1URL: http://www.linear.com/; ComponentLink2Description: Datasheet; ComponentLink2URL: http://cds.linear.com/docs/en/datasheet/lt0699.pdf; ComponentLink3Description: Package Specification; ComponentLink3URL: http://cds.linear.com/docs/en/packaging/05081610_G_SO8.pdf
footprint LT-S8-8_N (SOIC, 8-Leads, Body 5x4mm, Pitch 1.27mm, IPC Medium Density)
footprint LT-S8-8_L (SOIC, 8-Leads, Body 5x4mm, Pitch 1.27mm, IPC High Density)
footprint LT-S8-8_M (SOIC, 8-Leads, Body 5x4mm, Pitch 1.27mm, IPC Low Density)
pins: 1 VCC (power) "5V supply input. The VCC pin should be bypassed with a 0.1uF capacitor.", 2 VCC (power) "5V supply input. The VCC pin should be bypassed with a 0.1uF capacitor.", 3 GND (power) "Ground pin.", 4 GND (power) "Ground pin.", 5 NC, 6 WDI (in) "Watchdog Input, WDI, is a three level input. Driving WDI either high or low for longer than the watchdog timeout period forces R\E\S\E\T\ low. Floating WDI disables the Watchdog Timer. The timer resets itself with each (See Datasheet)", 7 ~{RESET} (oc) "Open drain output for uP reset control. When VCC falls below the reset voltage threshold (4.65V typically), R\E\S\E\T\ goes active low. After VCC returns to 5V, the reset pulse generator forces R\E\S\E\T\ to remain active (See Datasheet)", 8 GND (power) "Ground pin."

## LTC699IS8#TRPBF
designator U?
Microprocessor Supervisory Circuit, 8-pin SOIC (S8-8), -40 to 85 degC, Pb-Free, Tape and Reel; Manufacturer: Linear Technology; PartNumber: LTC699IS8#TRPBF; Number of Supplies(#): 1; DatasheetVersion: Rev. 0; PackageVersion: Rev. G, 03/2012; PackageReference: S8-8; PackageDescription: 8-Pin Plastic Small Outline (Narrow .150 Inch), Body 4.9 x 3.9 mm, Pitch 1.27 mm; Supplier 1: Digi-Key; Supplier Part Number 1: LTC699IS8#TRPBF-ND; Packing: Tape and Reel; RoHS: TRUE; Mounting Technology: Surface Mount; ComponentLink1Description: Manufacturer URL; ComponentLink1URL: http://www.linear.com/; ComponentLink2Description: Datasheet; ComponentLink2URL: http://cds.linear.com/docs/en/datasheet/lt0699.pdf; ComponentLink3Description: Package Specification; ComponentLink3URL: http://cds.linear.com/docs/en/packaging/05081610_G_SO8.pdf
footprint LT-S8-8_N (SOIC, 8-Leads, Body 5x4mm, Pitch 1.27mm, IPC Medium Density)
footprint LT-S8-8_L (SOIC, 8-Leads, Body 5x4mm, Pitch 1.27mm, IPC High Density)
footprint LT-S8-8_M (SOIC, 8-Leads, Body 5x4mm, Pitch 1.27mm, IPC Low Density)
pins: 1 VCC (power) "5V supply input. The VCC pin should be bypassed with a 0.1uF capacitor.", 2 VCC (power) "5V supply input. The VCC pin should be bypassed with a 0.1uF capacitor.", 3 GND (power) "Ground pin.", 4 GND (power) "Ground pin.", 5 NC, 6 WDI (in) "Watchdog Input, WDI, is a three level input. Driving WDI either high or low for longer than the watchdog timeout period forces R\E\S\E\T\ low. Floating WDI disables the Watchdog Timer. The timer resets itself with each (See Datasheet)", 7 ~{RESET} (oc) "Open drain output for uP reset control. When VCC falls below the reset voltage threshold (4.65V typically), R\E\S\E\T\ goes active low. After VCC returns to 5V, the reset pulse generator forces R\E\S\E\T\ to remain active (See Datasheet)", 8 GND (power) "Ground pin."

## LTC1153CN8
designator U?
Auto-Reset Electronic Circuit Breaker, 8-pin DIP (N8-8), 0 to 70 degC; Manufacturer: Linear Technology; PartNumber: LTC1153CN8; Number of Supplies(#): 1; DatasheetVersion: Rev. 0; PackageVersion: Rev. I, 07/2011; PackageReference: N8-8; PackageDescription: 8-Pin PDIP, Body 10.16 x 6.48 mm, Pitch 2.54 mm; Supplier 1: Digi-Key; Supplier Part Number 1: LTC1153CN8-ND; RoHS: FALSE; Mounting Technology: Through Hole; ComponentLink1Description: Manufacturer URL; ComponentLink1URL: http://www.linear.com/; ComponentLink2Description: Datasheet; ComponentLink2URL: http://cds.linear.com/docs/en/datasheet/lt1153.pdf; ComponentLink3Description: Package Specification; ComponentLink3URL: http://www.linear.com/docs/en/packaging/05081510_I_N8.pdf
footprint LT-N8-8 (DIP, 8-Leads, Body 10.15x6.85mm, Pitch 2.54mm)
pins: 1 IN (power) "The LTC1153 input pin is active high and activates all of the protection and charge pump circuitry when switched ON.", 2 TIMING CAP "The small capacitor charging current (4.2uA) produces large delays with relatively small valued capacitors, but care must be taken to ensure that this current is not shunted to ground through a leaky capacitor or printed (See Datasheet)", 3 STATUS (oc) "The status pin is an open-drain output which is driven low whenever the breaker is tripped. A 51k pull-up resistor should be connected between this output and a logic supply. The status pins of multiple LTC1153s can be (See Datasheet)", 4 GND (power), 5 SHUTDOWN (in) "The shutdown pin is designed to break the circuit if a secondary fault condition (over temperature, etc.) is detected. The LTC1153 logic and shutdown inputs are high impedance CMOS gates with ESD protection diodes to ground (See Datasheet)", 6 GATE (hiz) "The MOSFET gate drive pin is either driven to ground when the switch is turned OFF or driven above the supply rail when the switch is turned ON. This pin is a relatively high impedance when driven above the rail (the (See Datasheet)", 7 DRAIN SENSE (in) "The drain sense pin is compared against the supply pin voltage. If the voltage at this pin is more than 100mV below the supply pin, the input latch will trip and the MOSFET switch will be turned off. This pin is also a high (See Datasheet)", 8 VS (power) "The supply pin of the LTC1153 serves two vital purposes. The first is obvious: it powers the input, gate drive, regulation and protection circuitry. The second purpose is less obvious: it provides a Kelvin connection to the (See Datasheet)"

## LTC1153CN8#PBF
designator U?
Auto-Reset Electronic Circuit Breaker, 8-pin DIP (N8-8), 0 to 70 degC, Pb-Free; Manufacturer: Linear Technology; PartNumber: LTC1153CN8#PBF; Number of Supplies(#): 1; DatasheetVersion: Rev. 0; PackageVersion: Rev. I, 07/2011; PackageReference: N8-8; PackageDescription: 8-Pin PDIP, Body 10.16 x 6.48 mm, Pitch 2.54 mm; Supplier 1: Digi-Key; Supplier Part Number 1: LTC1153CN8#PBF-ND; Supplier 2: Newark; Supplier Part Number 2: 55M9420; RoHS: TRUE; Mounting Technology: Through Hole; ComponentLink1Description: Manufacturer URL; ComponentLink1URL: http://www.linear.com/; ComponentLink2Description: Datasheet; ComponentLink2URL: http://cds.linear.com/docs/en/datasheet/lt1153.pdf; ComponentLink3Description: Package Specification; ComponentLink3URL: http://www.linear.com/docs/en/packaging/05081510_I_N8.pdf
footprint LT-N8-8 (DIP, 8-Leads, Body 10.15x6.85mm, Pitch 2.54mm)
pins: 1 IN (power) "The LTC1153 input pin is active high and activates all of the protection and charge pump circuitry when switched ON.", 2 TIMING CAP "The small capacitor charging current (4.2uA) produces large delays with relatively small valued capacitors, but care must be taken to ensure that this current is not shunted to ground through a leaky capacitor or printed (See Datasheet)", 3 STATUS (oc) "The status pin is an open-drain output which is driven low whenever the breaker is tripped. A 51k pull-up resistor should be connected between this output and a logic supply. The status pins of multiple LTC1153s can be (See Datasheet)", 4 GND (power), 5 SHUTDOWN (in) "The shutdown pin is designed to break the circuit if a secondary fault condition (over temperature, etc.) is detected. The LTC1153 logic and shutdown inputs are high impedance CMOS gates with ESD protection diodes to ground (See Datasheet)", 6 GATE (hiz) "The MOSFET gate drive pin is either driven to ground when the switch is turned OFF or driven above the supply rail when the switch is turned ON. This pin is a relatively high impedance when driven above the rail (the (See Datasheet)", 7 DRAIN SENSE (in) "The drain sense pin is compared against the supply pin voltage. If the voltage at this pin is more than 100mV below the supply pin, the input latch will trip and the MOSFET switch will be turned off. This pin is also a high (See Datasheet)", 8 VS (power) "The supply pin of the LTC1153 serves two vital purposes. The first is obvious: it powers the input, gate drive, regulation and protection circuitry. The second purpose is less obvious: it provides a Kelvin connection to the (See Datasheet)"

## LTC1153CS8
designator U?
Auto-Reset Electronic Circuit Breaker, 8-pin SOIC (S8-8), 0 to 70 degC; Manufacturer: Linear Technology; PartNumber: LTC1153CS8; Number of Supplies(#): 1; DatasheetVersion: Rev. 0; PackageVersion: Rev. G, 03/2012; PackageReference: S8-8; PackageDescription: 8-Pin Plastic Small Outline (Narrow .150 Inch), Body 4.9 x 3.9 mm, Pitch 1.27 mm; Supplier 1: Digi-Key; Supplier Part Number 1: LTC1153CS8-ND; Supplier 2: Newark; Supplier Part Number 2: 55M9421; RoHS: FALSE; Mounting Technology: Surface Mount; ComponentLink1Description: Manufacturer URL; ComponentLink1URL: http://www.linear.com/; ComponentLink2Description: Datasheet; ComponentLink2URL: http://cds.linear.com/docs/en/datasheet/lt1153.pdf; ComponentLink3Description: Package Specification; ComponentLink3URL: http://cds.linear.com/docs/en/packaging/05081610_G_SO8.pdf
footprint LT-S8-8_N (SOIC, 8-Leads, Body 5x4mm, Pitch 1.27mm, IPC Medium Density)
footprint LT-S8-8_L (SOIC, 8-Leads, Body 5x4mm, Pitch 1.27mm, IPC High Density)
footprint LT-S8-8_M (SOIC, 8-Leads, Body 5x4mm, Pitch 1.27mm, IPC Low Density)
pins: 1 IN (power) "The LTC1153 input pin is active high and activates all of the protection and charge pump circuitry when switched ON.", 2 TIMING CAP "The small capacitor charging current (4.2uA) produces large delays with relatively small valued capacitors, but care must be taken to ensure that this current is not shunted to ground through a leaky capacitor or printed (See Datasheet)", 3 STATUS (oc) "The status pin is an open-drain output which is driven low whenever the breaker is tripped. A 51k pull-up resistor should be connected between this output and a logic supply. The status pins of multiple LTC1153s can be (See Datasheet)", 4 GND (power), 5 SHUTDOWN (in) "The shutdown pin is designed to break the circuit if a secondary fault condition (over temperature, etc.) is detected. The LTC1153 logic and shutdown inputs are high impedance CMOS gates with ESD protection diodes to ground (See Datasheet)", 6 GATE (hiz) "The MOSFET gate drive pin is either driven to ground when the switch is turned OFF or driven above the supply rail when the switch is turned ON. This pin is a relatively high impedance when driven above the rail (the (See Datasheet)", 7 DRAIN SENSE (in) "The drain sense pin is compared against the supply pin voltage. If the voltage at this pin is more than 100mV below the supply pin, the input latch will trip and the MOSFET switch will be turned off. This pin is also a high (See Datasheet)", 8 VS (power) "The supply pin of the LTC1153 serves two vital purposes. The first is obvious: it powers the input, gate drive, regulation and protection circuitry. The second purpose is less obvious: it provides a Kelvin connection to the (See Datasheet)"